# Altium integrated library LM324N.IntLib: 1 symbol
Pins are listed as number, name and electrical type; pins without a type are passive.

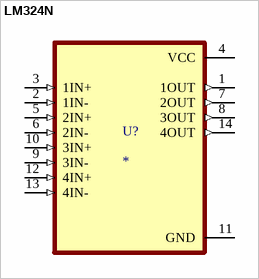
[diagram p0: symbol LM324N]

## LM324N
designator U?
General Purpose Amplifier 4 Circuit - 14-MDIP; MP: LM324N; MF: ON Semiconductor; SnapEDA_Link: https://www.snapeda.com/parts/LM324N/Onsemi/view-part/?ref=snap; Package: DIP-14 Motorola; Check_prices: https://www.snapeda.com/parts/LM324N/Onsemi/view-part/?ref=eda; Purchase-URL: https://pricing.snapeda.com/search/part/LM324N/?ref=eda; Price: None; Value: *; Availability: In Stock
footprint DIP794W45P254L1969H508Q14
pins: 1 1OUT (out), 2 1IN- (in), 3 1IN+ (in), 4 VCC (power), 5 2IN+ (in), 6 2IN- (in), 7 2OUT (out), 8 3OUT (out), 9 3IN- (in), 10 3IN+ (in), 11 GND (power), 12 4IN+ (in), 13 4IN- (in), 14 4OUT (out)